# Altium footprint library Kilian_UCC_Library.PcbLib: 153 footprints (part 1 of 10)
Each footprint in its own frame and in the unit in brackets; x right, y up, seen from the top. Pads: shape width x height; smd on the part's side, far side on the other; paste and mask are expansions set on the pad; w line width, h text height; cw(c..) or ccw(c..) is an arc to the next point about the centre after c.
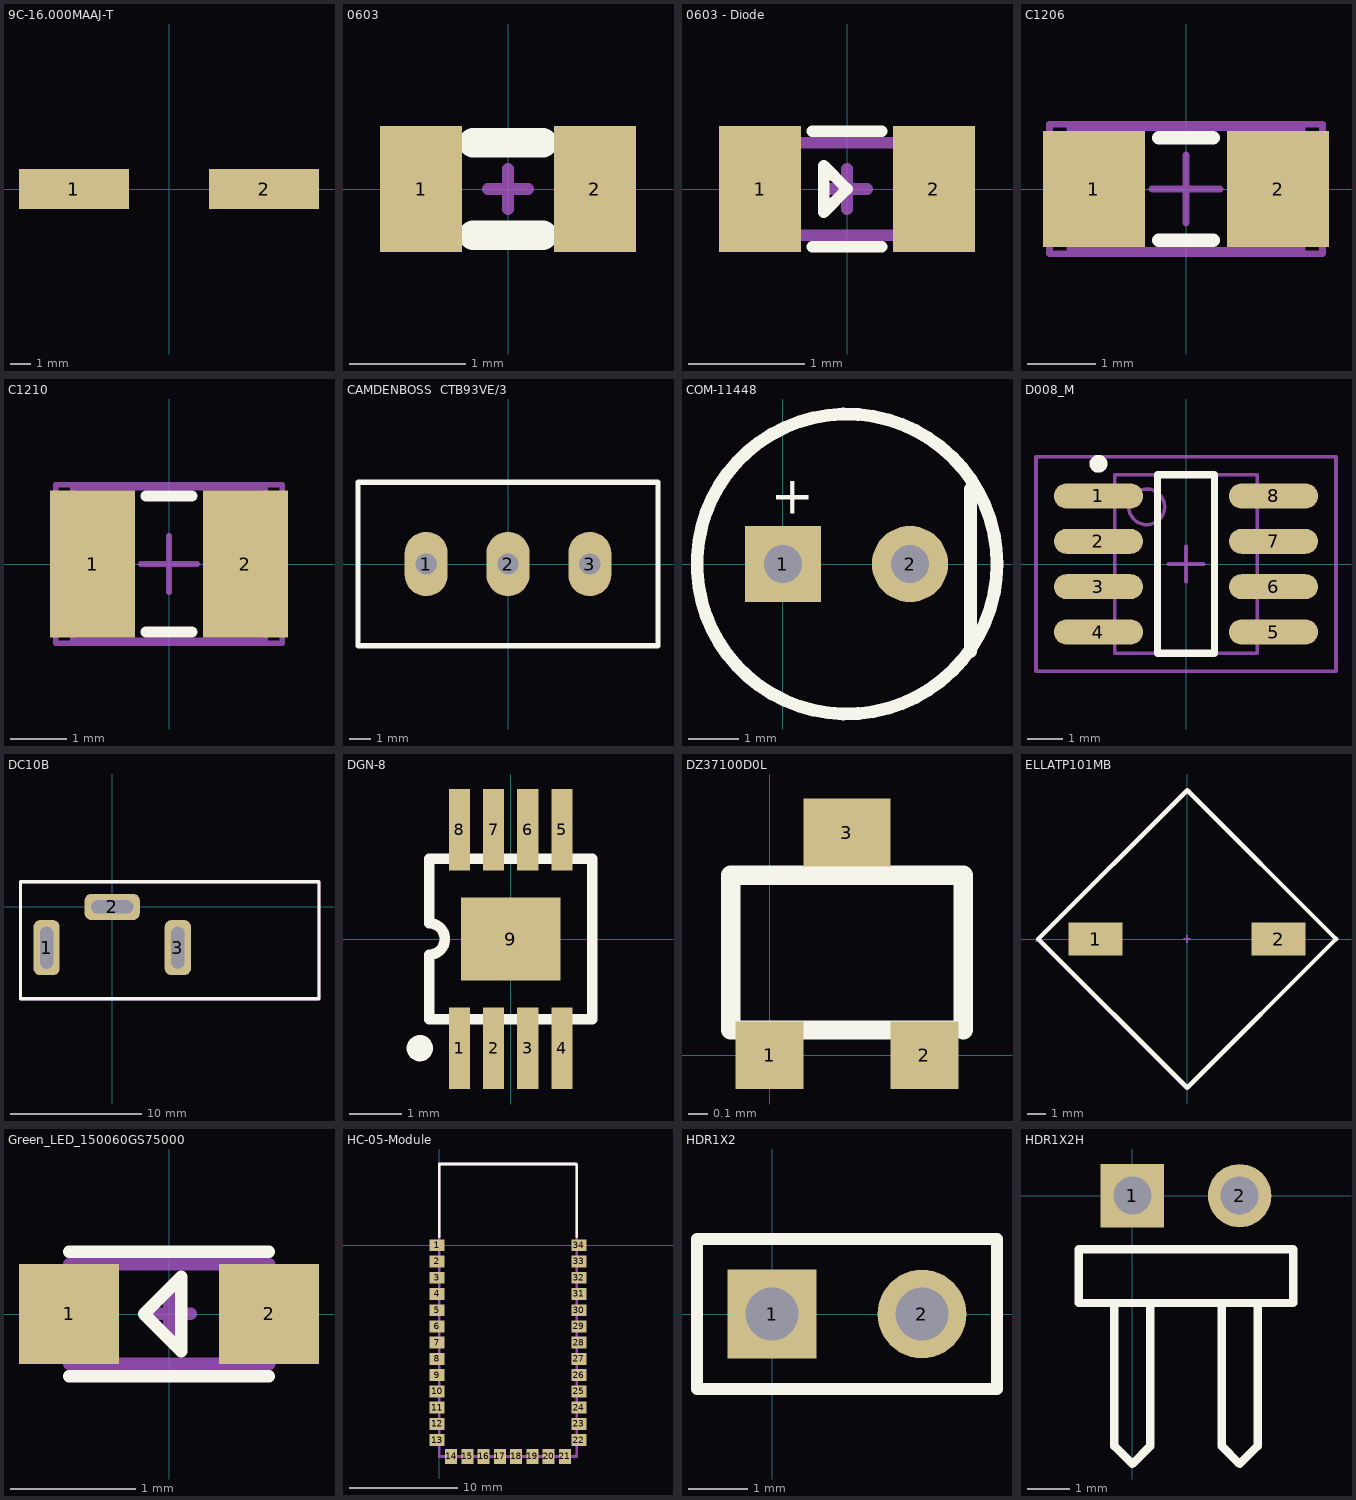
[diagram p0: the footprints below, top view; thin cyan lines are the x and y axes]

## 9C-16.000MAAJ-T [mm] "16MHz crystal"
height 0.55
pads (2):
  rect 5.5x2 smd: 1(-4.75,0) 2(4.75,0)
3D body: height 4.09, standoff 0, extent -5.956,-2.4 5.957,2.4

## 0603 [mm] "Chip Inductor, Body 0.6x0.3mm, IPC High Density"
height 0.55
pads (2):
  rect 0.71x1.09 smd: 1(-0.75,0) 2(0.75,0)
Top Overlay:
  lines w0.254: -0.3,-0.4 0.3,-0.4 ; -0.3,0.4 0.3,0.4
Mechanical 13:
  lines w0.1: -0.6,-0.4 -0.6,0.4 0.6,0.4 0.6,-0.4 -0.6,-0.4
Mechanical 15:
  lines w0.1: -0.175,0 0.175,0 ; 0,-0.175 0,0.175 ; -0.7,-0.4 -0.7,0.4 0.7,0.4 0.7,-0.4 -0.7,-0.4
3D body: height 0.55, standoff 0, extent -0.6,-0.4 0.6,0.4

## 0603 - Diode [mm] "Chip Inductor, Body 0.6x0.3mm, IPC High Density"
height 0.55
pads (2):
  rect 0.71x1.09 smd: 1(-0.75,0) 2(0.75,0)
Top Overlay:
  lines w0.1: -0.3,-0.5 0.3,-0.5 ; -0.3,0.5 0.3,0.5 ; -0.2,-0.2 0,0 -0.2,0.2 -0.2,-0.2
Mechanical 13:
  lines w0.1: -0.6,-0.4 0.6,-0.4 0.6,0.4 -0.6,0.4 -0.6,-0.4
Mechanical 15:
  lines w0.1: -0.175,0 0.175,0 ; 0,-0.175 0,0.175 ; -0.7,-0.4 0.7,-0.4 0.7,0.4 -0.7,0.4 -0.7,-0.4
3D body: height 0.55, standoff 0, extent -0.6,-0.4 0.6,0.4

## C1206 [mm] "Chip Capacitor, Body 3.2x1.6mm, IPC High Density"
height 1.3
pads (2):
  rect 1.5x1.7 smd: 1(-1.35,0) 2(1.35,0)
Top Overlay:
  lines w0.2: -0.4,-0.75 0.4,-0.75 ; -0.4,0.75 0.4,0.75
Mechanical 13:
  lines w0.1: -1.7,-0.9 1.7,-0.9 1.7,0.9 -1.7,0.9 -1.7,-0.9
Mechanical 15:
  lines w0.1: -0.5,0 0.5,0 ; 0,-0.5 0,0.5 ; -2,-0.95 2,-0.95 2,0.95 -2,0.95 -2,-0.95
3D body: height 1.3, standoff 0, extent -1.7,-0.9 1.7,0.9

## C1210 [mm] "Chip Capacitor, Body 3.2x2.5mm, IPC High Density"
height 1.3
pads (2):
  rect 1.5x2.6 smd: 1(-1.35,0) 2(1.35,0)
Top Overlay:
  lines w0.2: -0.4,-1.2 0.4,-1.2 ; -0.4,1.2 0.4,1.2
Mechanical 13:
  lines w0.1: -1.7,-1.35 1.7,-1.35 1.7,1.35 -1.7,1.35 -1.7,-1.35
Mechanical 15:
  lines w0.1: -0.5,0 0.5,0 ; 0,-0.5 0,0.5 ; -2,-1.4 2,-1.4 2,1.4 -2,1.4 -2,-1.4
3D body: height 1.3, standoff 0, extent -1.7,-1.35 1.7,1.35

## CAMDENBOSS  CTB93VE/3 [mm]
pads (3):
  oval 2x3 hole 1: 1(-3.81,0) 2(0,0) 3(3.81,0)
Top Overlay:
  lines w0.254: -6.985,-3.81 -6.985,3.81 6.985,3.81 6.985,-3.81 -6.985,-3.81
3D body: height 9.2, standoff 0, extent -6.985,-3.81 6.985,3.81

## COM-11448 [mil]
pads (2):
  rect 60x60 hole 30: 1(0,0)
  round 60 hole 30: 2(100,0)
Top Overlay:
  circle w10: c50.39,0 r118.11
  lines w10: 147.64,-68.9 147.64,59.06
  text "+" at -9.84,39.37 h30

## D008_M [mm] "8-Pin Small Outline Integrated Circuit 1.27 mm Pitch, IPC Low Density"
height 1.75
pads (8):
  oval 2.5x0.7 smd: 1(-2.45,1.905) 2(-2.45,0.635) 3(-2.45,-0.635) 4(-2.45,-1.905) 5(2.45,-1.905) 6(2.45,-0.635) 7(2.45,0.635) 8(2.45,1.905)
Top Overlay:
  circle w0.25: c-2.45,2.805 r0.125
  lines w0.2: -0.8,-2.5 -0.8,2.5 0.8,2.5 0.8,-2.5 -0.8,-2.5
Mechanical 13:
  circle w0.1: c-1.1,1.6 r0.5
  lines w0.1: -2,-2.5 -2,2.5 2,2.5 2,-2.5 -2,-2.5
Mechanical 15:
  lines w0.1: -0.5,0 0.5,0 ; 0,-0.5 0,0.5 ; -4.2,-3 -4.2,3 4.2,3 4.2,-3 -4.2,-3
3D body: height 1.75, standoff 0, extent -2,-2.5 2,2.5

## DC10B [mm] "2.5mm Barrel Jack 5A Connector"
pads (3):
  rrect50% 2x4.2 hole 1 slot 3.2 at 90 deg: 1(-5,-3.1) 3(5,-3.1)
  rrect50% 4.2x2 hole 1 slot 3.2 at 0 deg: 2(0,0)
Top Overlay:
  lines w0.254: -6.985,-6.985 15.748,-6.985 15.748,1.905 -6.985,1.905 -6.985,-6.985
Mechanical 13:
  lines w0.254: -6.985,-6.985 -6.985,1.905 15.748,1.905 15.748,-6.985 -6.985,-6.985
3D body: height 9, standoff 0, extent -6.985,-6.985 15.748,1.905

## DGN-8 [mm] "DGN PowerPAD"
height 1.17
pads (9):
  rect 0.4x1.55 smd: 1(-0.975,-2.075) 2(-0.325,-2.075) 3(0.325,-2.075) 4(0.975,-2.075) 5(0.975,2.075) 6(0.325,2.075) 7(-0.325,2.075) 8(-0.975,2.075)
  rect 1.89x1.57 smd: 9(0,0)
Top Overlay:
  circle w0.25: c-1.725,-2.075 r0.125
  lines w0.2: -1.55,-1.524 -1.55,-0.3 ccw(c-1.55,0) -1.55,0.3 -1.55,1.524 1.55,1.524 1.55,-1.524 -1.55,-1.524
3D body: height 1.1, standoff 0, extent -1.524,-1.524 1.524,1.524

## DZ37100D0L [mm] "PANASONIC ELECTRONIC COMPONENTS  DZ37100D0L  Zener Array Diode, 10 V, Dual Common Anode, 150 mW, -40 °C, 150 °C, SOT-723"
pads (3):
  rect 0.35x0.35 smd: 1(0,0) 2(0.8,0)
  rect 0.45x0.35 smd: 3(0.4,1.15)
Top Overlay:
  lines w0.1: 0.95,0.13 -0.2,0.13 -0.2,0.93 1,0.93 1,0.13
3D body: height 0.52, standoff 0, extent -0.21,0.14 1,0.93

## ELLATP101MB [mm] "PANASONIC ELECTRONIC COMPONENTS  ELLATP101MB  Surface Mount Power Inductor, ELL-ATP Series, 100 µH, ± 20%, Wirewound, 0.18 ohm, 1.2 A"
height 4.2
pads (2):
  rect 3x1.85 smd: 1(-5.075,0) 2(5.075,0)
Top Overlay:
  lines w0.254: -8.255,0 0,8.255 8.255,0 0,-8.255 -8.255,0
Mechanical 13:
  lines w0.1: -0.127,-8.255 -8.319,-0.064 0,8.255 ; 0,-8.255 8.255,0 0,8.255 ; 0,8.255 0,8.255
Mechanical 15:
  lines w0.1: -0.175,0 0.175,0 ; 0,-0.175 0,0.175 ; 0,8.255 -8.382,-0.127 -8.128,-0.127 0,-8.255 8.255,0 0.064,8.191 0.127,8.255
3D body: height 4.2, standoff 0, extent -6.477,-7.184 6.477,7.184

## Green_LED_150060GS75000 [mm] "WURTH ELEKTRONIK  150060GS75000  LED, Green, SMD, 30 mA, 3.2 V, 520 nm"
height 0.55
pads (2):
  rect 0.8x0.8 smd: 1(-0.8,0) 2(0.8,0)
Top Overlay:
  lines w0.1: -0.8,-0.5 0.8,-0.5 ; -0.4,0.5 -0.8,0.5 0.8,0.5 ; -0.2,0 0.1,0.3 0.1,-0.3 -0.2,0
Mechanical 15:
  lines w0.1: -0.175,0 0.175,0 ; 0,-0.175 0,0.175 ; -0.8,-0.4 0.8,-0.4 0.8,0.4 -0.8,0.4 -0.8,-0.4
3D body: height 0.7, standoff 0, extent -0.8,-0.4 0.8,0.4

## HC-05-Module [mm]
pads (34):
  rect 1.4x1.1 smd: 1(-0.2,0) 2(-0.2,-1.5) 3(-0.2,-3) 4(-0.2,-4.5) 5(-0.2,-6) 6(-0.2,-7.5) 7(-0.2,-9) 8(-0.2,-10.5) 9(-0.2,-12) 10(-0.2,-13.5) 11(-0.2,-15) 12(-0.2,-16.5) 13(-0.2,-18) 22(12.9,-18) 23(12.9,-16.5) 24(12.9,-15) 25(12.9,-13.5) 26(12.9,-12) 27(12.9,-10.5) 28(12.9,-9) 29(12.9,-7.5) 30(12.9,-6) 31(12.9,-4.5) 32(12.9,-3) 33(12.9,-1.5) 34(12.9,0)
  rect 1.1x1.4 smd: 14(1.1,-19.5) 15(2.6,-19.5) 16(4.1,-19.5) 17(5.6,-19.5) 18(7.1,-19.5) 19(8.6,-19.5) 20(10.1,-19.5) 21(11.6,-19.5)
Top Overlay:
  lines w0.254: 0,0.8 0,7.5 12.6,7.5 12.7,7.4 12.7,0.8
Mechanical 1:
  lines w0.254: 12.6,-19.4 12.7,-19.5 ; 12.7,-19.5 0,-19.5 0,7.5 12.7,7.5 12.7,-19.5
3D body: height 2.35, standoff 0, extent -0.7,-19.8 13.32,8.21

## HDR1X2 [mm] "Connector; Header; 2 Position"
pads (2):
  rect 1.5x1.5 hole 0.9: 1(0,0)
  round 1.5 hole 0.9: 2(2.54,0)
Top Overlay:
  lines w0.2: -1.27,-1.27 3.81,-1.27 3.81,1.27 -1.27,1.27 -1.27,-1.27

## HDR1X2H [mm] "Connector; Header; 2 Position; Right Angle"
pads (2):
  rect 1.5x1.5 hole 0.9: 1(0,0)
  round 1.5 hole 0.9: 2(2.54,0)
Top Overlay:
  lines w0.2: -0.423,-2.54 -0.423,-5.927 0,-6.35 0.423,-5.927 0.423,-2.54 ; 2.117,-2.54 2.117,-5.927 2.54,-6.35 2.963,-5.927 2.963,-2.54 ; -1.27,-2.54 -1.27,-1.27 3.81,-1.27 3.81,-2.54 -1.27,-2.54